# EAGLE library part 74*14 (library 74)
Hex schmitt trigger INVERTER
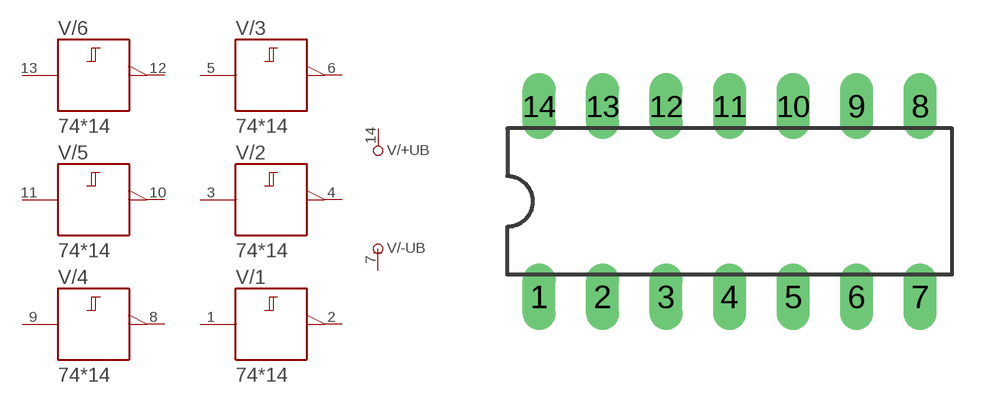
[diagram p13: symbol with the pads of DIL14; footprint DIL14]

Designator prefix V; gates /+UB=+UB /-UB=-UB /1=14 /2=14 /3=14 /4=14 /5=14 /6=14

## 7414N  [DIL14]
1  /1:A  in
2  /1:Y  out
3  /2:A  in
4  /2:Y  out
5  /3:A  in
6  /3:Y  out
7  /-UB:-UB  pwr
8  /4:Y  out
9  /4:A  in
10  /5:Y  out
11  /5:A  in
12  /6:Y  out
13  /6:A  in
14  /+UB:+UB  pwr

## Footprint DIL14 (pad centres in mm)
Dual In Line Package
drill 0.813 long: 1 -7.62,-3.81; 2 -5.08,-3.81; 3 -2.54,-3.81; 4 0,-3.81; 5 2.54,-3.81; 6 5.08,-3.81; 7 7.62,-3.81; 8 7.62,3.81; 9 5.08,3.81; 10 2.54,3.81; 11 0,3.81; 12 -2.54,3.81; 13 -5.08,3.81; 14 -7.62,3.81